# Altium footprint library Empreintes_LIB_atelier1A.PcbLib: 73 footprints (part 1 of 5)
Each footprint in its own frame and in the unit in brackets; x right, y up, seen from the top. Pads: shape width x height; smd on the part's side, far side on the other; paste and mask are expansions set on the pad; w line width, h text height; cw(c..) or ccw(c..) is an arc to the next point about the centre after c.
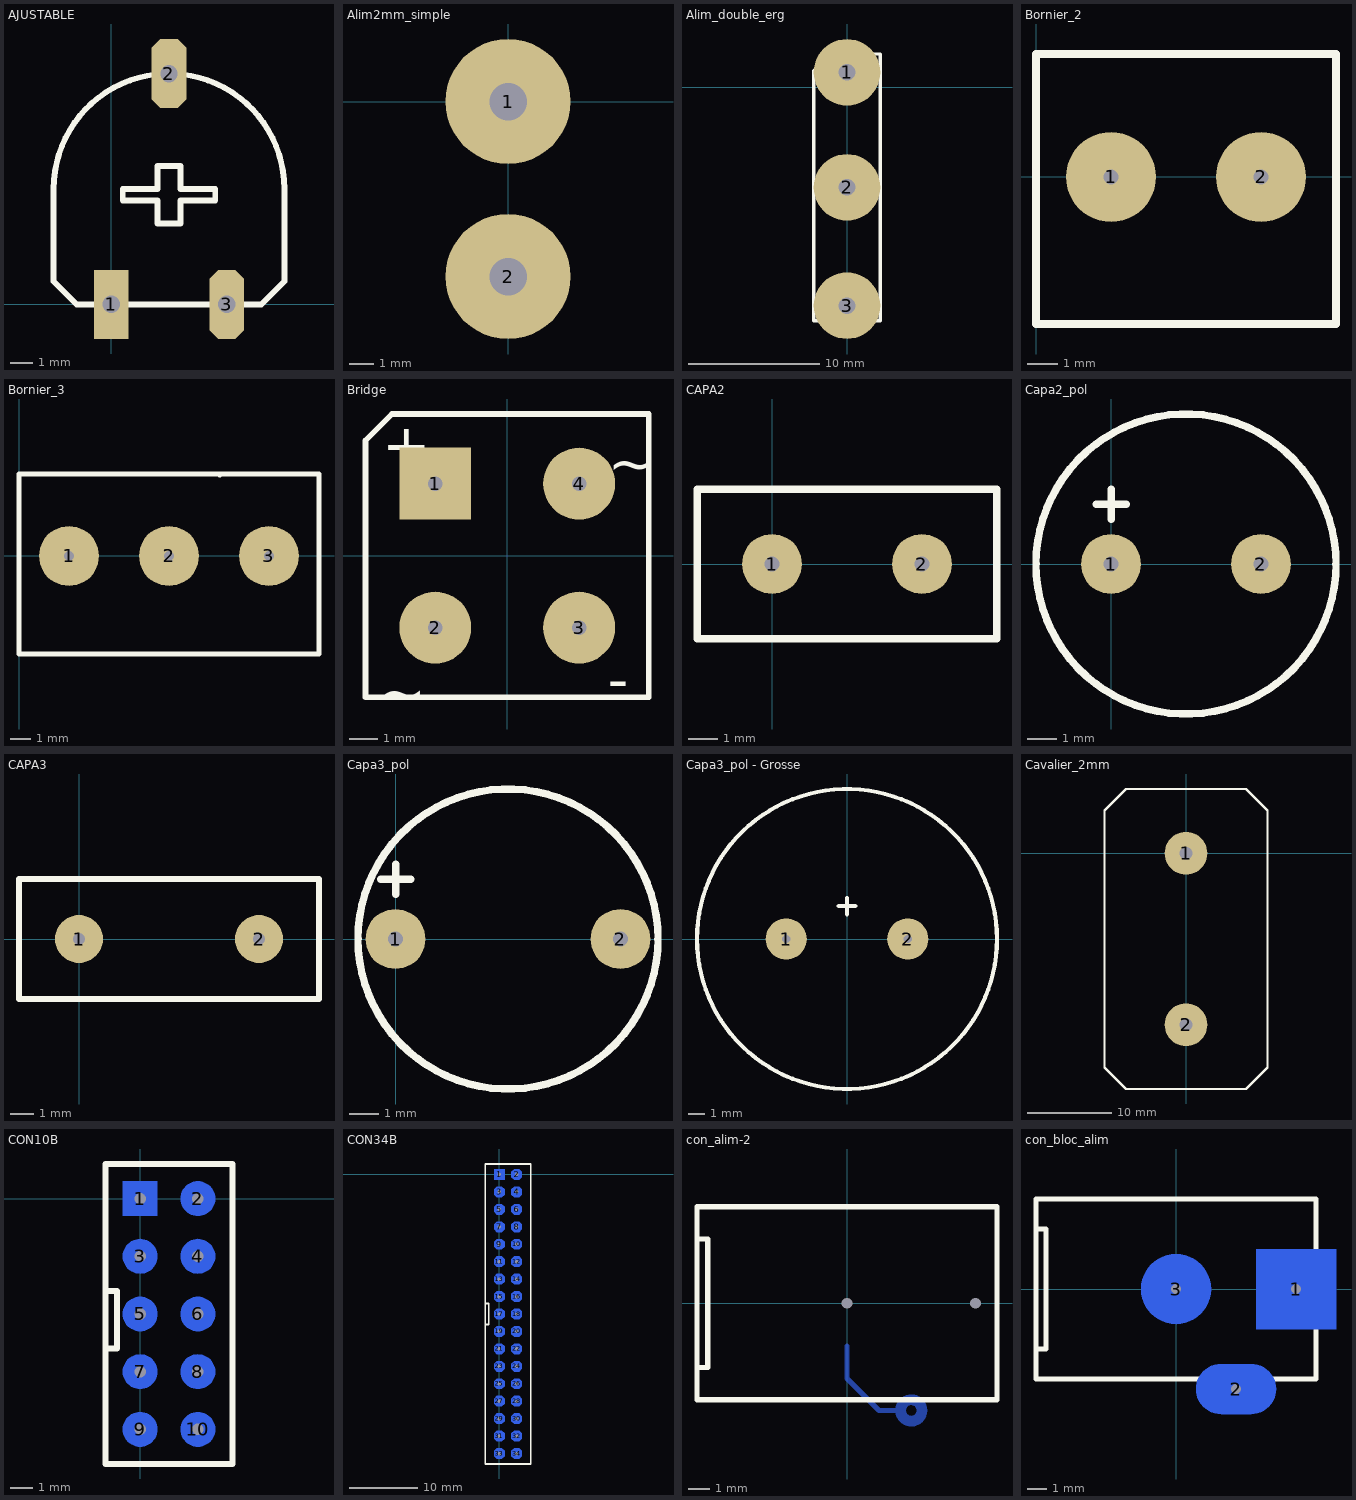
[diagram p0: the footprints below, top view; thin cyan lines are the x and y axes]

## AJUSTABLE [mil]
pads (3):
  rect 60x120 hole 30: 1(0,0)
  oct 60x120 hole 30: 2(100,400) 3(200,0)
TopOverlay:
  lines w10: -100,40 -100,200 cw(c100,200) 300,200 300,40 260,0 -60,0 -100,40 ; 20,180 20,200 80,200 80,240 120,240 120,200 180,200 180,180 120,180 120,140 80,140 80,180 20,180

## Alim2mm_simple [mil]
pads (2):
  round 200 hole 60: 1(0,0) 2(0,-280)
TopLayer:
  text "(5V)" at 160,-80 h60
  text "VCC" at 160,20 h60
  text "GND" at 140,-260 h60
  text "(0V)" at 140,-360 h60
BottomLayer:
  text "VCC" at 280,-20 h40
  text "GND" at 280,-280 h40

## Alim_double_erg [mil]
pads (3):
  round 200 hole 50: 1(0,45) 2(0,-300) 3(0,-655)
TopLayer:
  text "-V" at -130,-715 h50
  text "GND" at -130,-350 h50
  text "+V" at -125,5 h50
BottomLayer:
  text "+V" at -125,85 h50
  text "GND" at -130,-210 h50
  text "-V" at -130,-635 h50
TopOverlay:
  lines w10: -100,-700 -100,45 -100,50 -50,100 100,100 100,-700 -100,-700

## Bornier_2 [mm]
pads (2):
  round 3 hole 0.508: 1(2.5,0) 2(7.5,0)
TopOverlay:
  lines w0.254: 0,-4.9 10,-4.9 10,4.1 0,4.1 0,-4.9

## Bornier_3 [mm]
pads (3):
  round 3 hole 0.508: 1(2.5,0) 2(7.5,0) 3(12.5,0)
TopOverlay:
  lines w0.254: 10,4.1 10.036,4.064 ; 0,-4.9 0,4.1 15,4.1 15,-4.9 0,-4.9

## Bridge [mil] "Bridge Rectifier; 4 Terminals; Body 9.4 x 9.4 mm (typ); Pitch 5.08 mm"
height 390.16
pads (4):
  rect 100x100 hole 20: 1(-100,100)
  round 100 hole 20: 2(-100,-100) 3(100,-100) 4(100,100)
TopOverlay:
  lines w7.87: -196.85,-196.85 196.85,-196.85 196.85,196.85 -160,196.85 -196.85,160 -196.85,-196.85
  text "~" at 140,100 h59.05
  text "~" at -180,-220 h59.05
  text "-" at 140,-200 h59.05
  text "+" at -173.62,124.57 h59.06

## CAPA2 [mil]
pads (2):
  round 80 hole 20: 1(0,0) 2(200,0)
TopOverlay:
  lines w10: -100,-100 -100,100 0,100 200,100 300,100 300,-100 200,-100 0,-100 -100,-100

## Capa2_pol [mil]
pads (2):
  round 80 hole 20: 1(0,0) 2(200,0)
TopOverlay:
  circle w10: c100,0 r200
  lines w10: -20,80 20,80 ; 0,60 0,100

## CAPA3 [mil]
pads (2):
  round 80 hole 20: 1(0,0) 2(300,0)
TopOverlay:
  lines w10: -100,-100 -100,100 0,100 300,100 400,100 400,-100 300,-100 0,-100 -100,-100

## Capa3_pol [mil]
pads (2):
  round 80 hole 20: 1(0,0) 2(300,0)
TopOverlay:
  circle w10: c150,0 r200
  lines w10: -20,80 20,80 ; 0,60 0,100

## Capa3_pol - Grosse [mil]
pads (2):
  round 100 hole 20: 1(-147.64,0) 2(147.64,0)
TopOverlay:
  circle w10: c0,0 r364.17
  lines w10: -20,80 20,80 ; 0,60 0,100

## Cavalier_2mm [mil]
pads (2):
  round 200 hole 60: 1(0,0) 2(0,-800)
TopOverlay:
  lines w10: -380,-1000 -280,-1100 280,-1100 380,-1000 380,0 380,200 280,300 -280,300 -380,200 -380,100 -380,-1000

## CON10B [mil]
pads (10):
  rect 60x60 on Bottom hole 20: 1(0,0)
  round 60 on Bottom hole 20: 2(100,0) 3(0,-100) 4(100,-100) 5(0,-200) 6(100,-200) 7(0,-300) 8(100,-300) 9(0,-400) 10(100,-400)
BottomLayer:
  text "1" at -80,-20 h60
TopOverlay:
  lines w10: -60,-440 -60,60 160,60 160,20 ; -60,-420 -60,-460 160,-460 160,40 ; -60,-260 -40,-260 -40,-160 -60,-160

## CON34B [mil]
pads (34):
  rect 60x60 on Bottom hole 20: 1(0,0)
  oct 60x60 on Bottom hole 20: 2(100,0) 3(0,-100) 4(100,-100) 5(0,-200) 6(100,-200) 7(0,-300) 8(100,-300) 9(0,-400) 10(100,-400) 11(0,-500) 12(100,-500) 13(0,-600) 14(100,-600) 15(0,-700) 16(100,-700) 17(0,-800) 18(100,-800) 19(0,-900) 20(100,-900) 21(0,-1000) 22(100,-1000) 23(0,-1100) 24(100,-1100) 25(0,-1200) 26(100,-1200) 27(0,-1300) 28(100,-1300) 29(0,-1400) 30(100,-1400) 31(0,-1500) 32(100,-1500) 33(0,-1600) 34(100,-1600)
BottomLayer:
  text "1" at -80,-20 h60
TopOverlay:
  lines w10: -80,-860 -60,-860 -60,-740 -80,-740 ; 180,-1280 180,60 -80,60 -80,-1280 -80,-1660 180,-1660 180,-1260

## con_alim-2 [mil]
pads (2):
  round 0 / inner round 0 / far side rect 160x280 hole 20: 1(240,0)
  round 0 / inner round 0 / far side oval 140x200 hole 20: 2(0,0)
BottomLayer:
  circle w20: c120,-200 r20
  lines w10: 0,-80 0,-140 60,-200 100,-200
TopOverlay:
  lines w10: -280,-120 -260,-120 -260,120 -280,120 ; -280,-180 -140,-180 280,-180 280,180 -100,180 -280,180 -280,140 -280,-180

## con_bloc_alim [mil]
pads (3):
  rect 160x160 on Bottom hole 20: 1(240,0)
  oval 160x100 on Bottom hole 20: 2(120,-200)
  round 140 on Bottom hole 20: 3(0,0)
TopOverlay:
  lines w10: -280,-120 -260,-120 -260,120 -280,120 ; -280,-180 -280,140 -280,180 -100,180 280,180 280,-180 -140,-180 -280,-180